# Altium footprint library buck.PcbLib: 23 footprints (part 2 of 2)
Each footprint in its own frame and in the unit in brackets; x right, y up, seen from the top. Pads: shape width x height; smd on the part's side, far side on the other; paste and mask are expansions set on the pad; w line width, h text height; cw(c..) or ccw(c..) is an arc to the next point about the centre after c.
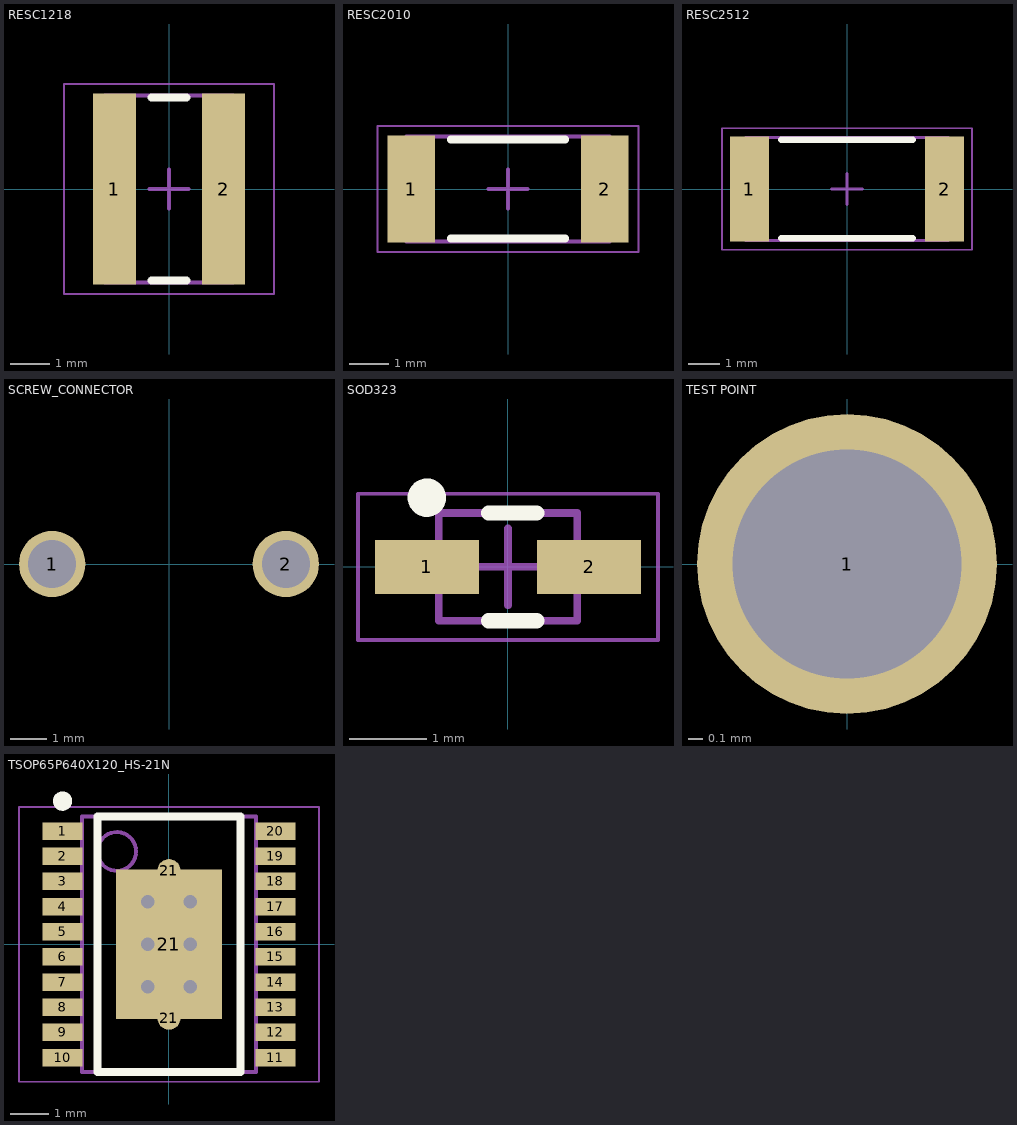
[diagram p1: the footprints below, top view; thin cyan lines are the x and y axes]

## RESC1218 [mm] "Chip Resistor, 2-Leads, Body 3,10x4,60mm, IPC Medium Density"
height 0.7
pads (2):
  rect 1.1x4.9 smd: 1(-1.4,0) 2(1.4,0)
Top Overlay:
  lines w0.2: -0.45,-2.35 0.45,-2.35 ; -0.45,2.35 0.45,2.35
Mechanical 13:
  lines w0.1: -1.65,-2.4 1.65,-2.4 1.65,2.4 -1.65,2.4 -1.65,-2.4
Mechanical 15:
  lines w0.05: -2.7,-2.7 2.7,-2.7 2.7,2.7 -2.7,2.7 -2.7,-2.7
  lines w0.1: -0.5,0 0.5,0 ; 0,-0.5 0,0.5
3D body "RESC3146X07N.step": height 0.7, standoff 0, extent -1.65,-2.4 1.65,2.4

## RESC2010 [mm] "Chip Resistor, 2-Leads, Body 5,00x2,50mm, IPC Medium Density"
height 0.7
pads (2):
  rect 1.2x2.7 smd: 1(-2.45,0) 2(2.45,0)
Top Overlay:
  lines w0.2: -1.45,-1.25 1.45,-1.25 ; -1.45,1.25 1.45,1.25
Mechanical 13:
  lines w0.1: -2.575,-1.325 -2.575,1.325 2.575,1.325 2.575,-1.325 -2.575,-1.325
Mechanical 15:
  lines w0.05: -3.3,-1.6 -3.3,1.6 3.3,1.6 3.3,-1.6 -3.3,-1.6
  lines w0.1: -0.5,0 0.5,0 ; 0,-0.5 0,0.5
3D body "RESC5025X07N.step": height 0.7, standoff 0, extent -2.575,-1.325 2.575,1.325

## RESC2512 [mm] "Chip Resistor, 2-Leads, Body 6,30x3,15mm, IPC Medium Density"
height 0.7
pads (2):
  rect 1.25x3.35 smd: 1(-3.125,0) 2(3.125,0)
Top Overlay:
  lines w0.2: -2.1,-1.575 2.1,-1.575 ; -2.1,1.575 2.1,1.575
Mechanical 13:
  lines w0.1: -3.25,-1.65 -3.25,1.65 3.25,1.65 3.25,-1.65 -3.25,-1.65
Mechanical 15:
  lines w0.05: -4,-1.95 -4,1.95 4,1.95 4,-1.95 -4,-1.95
  lines w0.1: -0.5,0 0.5,0 ; 0,-0.5 0,0.5
3D body "RESC6332X07N.step": height 0.7, standoff 0, extent -3.25,-1.65 3.25,1.65

## SCREW_CONNECTOR [mm]
height 21.5
pads (2):
  round 1.8 hole 1.3: 1(-3.175,0) 2(3.175,0)
3D body "c-796740-2-c1-3d.stp": height 21.65, standoff -4.85, extent -6.98,-4.601 6.32,7.899

## SOD323 [mm] "SOD323, 2-Leads, Body 1,30x1,70mm, IPC Medium Density"
height 1.1
pads (2):
  rect 1.35x0.7 smd: 1(-1.055,0) 2(1.055,0)
Top Overlay:
  circle w0.25: c-1.055,0.9 r0.125
  lines w0.2: -0.254,-0.7 0.373,-0.7 ; -0.254,0.7 0.373,0.7
Mechanical 13:
  lines w0.1: -0.9,-0.7 0.9,-0.7 0.9,0.7 -0.9,0.7 -0.9,-0.7
Mechanical 15:
  lines w0.05: -1.95,-0.95 1.95,-0.95 1.95,0.95 -1.95,0.95 -1.95,-0.95
  lines w0.1: -0.5,0 0.5,0 ; 0,-0.5 0,0.5
3D body "SOD323.step": height 1.1, standoff 0.01, extent -1.243,-0.7 1.243,0.7

## TEST POINT [mm]
height 8.1
pads (1):
  round 2.1 hole 1.6: 1(0,0)

## TSOP65P640X120_HS-21N [mm] "TSOP, 20-Leads, Body 6,50x4,40mm, Pitch 0,65mm, Thermal Pad 3,86x2,74mm, IPC Medium Density"
height 1.2
pads (23):
  rect 1.04x0.45 smd: 1(-2.75,2.925) 2(-2.75,2.275) 3(-2.75,1.625) 4(-2.75,0.975) 5(-2.75,0.325) 6(-2.75,-0.325) 7(-2.75,-0.975) 8(-2.75,-1.625) 9(-2.75,-2.275) 10(-2.75,-2.925) 11(2.75,-2.925) 12(2.75,-2.275) 13(2.75,-1.625) 14(2.75,-0.975) 15(2.75,-0.325) 16(2.75,0.325) 17(2.75,0.975) 18(2.75,1.625) 19(2.75,2.275) 20(2.75,2.925)
  round 0.6 smd: 21(0,-1.905) 21(0,1.905)
  rect 2.74x3.86 smd: 21(0,0)
via 0.55,-1.1 diameter 0.85 hole 0.35
via -0.55,-1.1 diameter 0.85 hole 0.35
via 0.55,0 diameter 0.85 hole 0.35
via -0.55,0 diameter 0.85 hole 0.35
via 0.55,1.1 diameter 0.85 hole 0.35
via -0.55,1.1 diameter 0.85 hole 0.35
Top Overlay:
  circle w0.25: c-2.75,3.7 r0.125
  lines w0.2: -1.85,-3.3 1.85,-3.3 1.85,3.3 -1.85,3.3 -1.85,-3.3
Mechanical 13:
  circle w0.1: c-1.35,2.4 r0.5
  lines w0.1: -2.25,-3.3 2.25,-3.3 2.25,3.3 -2.25,3.3 -2.25,-3.3
Mechanical 15:
  lines w0.05: -3.875,-3.55 3.875,-3.55 3.875,3.55 -3.875,3.55 -3.875,-3.55
  lines w0.1: -0.5,0 0.5,0 ; 0,-0.5 0,0.5
3D body "LT8711.step": height 1.2, standoff 0, extent -3.2,-3.3 3.2,3.3